# EAGLE library part ST1S40IDR (library pimoroni-ics)
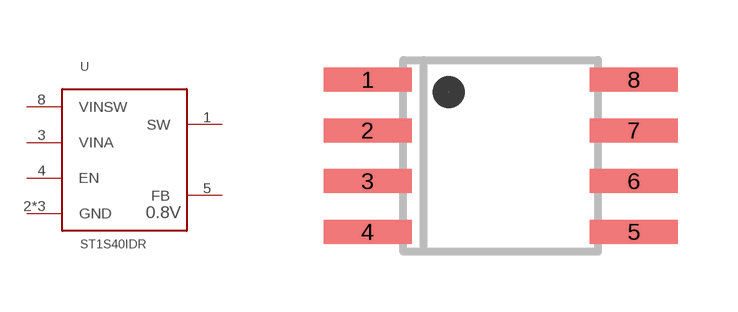
[diagram p53: symbol with the pads of SOIC8-LONGPAD; footprint SOIC8-LONGPAD]

Designator prefix U

## ST1S40IDR  [SOIC8-LONGPAD]
1  SW
2  GND
3  VINA
4  EN
5  FB
6  GND
7  GND
8  VINSW

## Footprint SOIC8-LONGPAD (pad centres in mm)
smd 2.2 x 0.6: 1 -3.33,1.905; 2 -3.33,0.635; 3 -3.33,-0.635; 4 -3.33,-1.905; 5 3.33,-1.905; 6 3.33,-0.635; 7 3.33,0.635; 8 3.33,1.905